# Altium schematic symbol library Passives_Lib.SchLib: 1 symbol
Pins are listed as number, name and electrical type; pins without a type are passive.

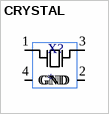
[diagram p0: symbol CRYSTAL]

## CRYSTAL
designator X?
ComponentLink1Description: Datasheet; ComponentLink1URL: http://www.farnell.com/datasheets/1700989.pdf?_ga=2.231668447.1952032271.1539693504-1634591026.1539693504
footprint SMD_FA-238V
pins: 1, 2 GND, 3, 4 GND (power)